# EAGLE library part BD (library open-bldc)
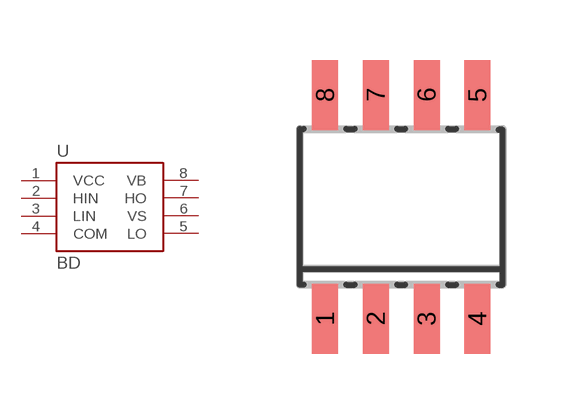
[diagram p14: symbol with the pads of SO8; footprint SO8]

Designator prefix U

## BD_IR2101  [SO8]
1  VCC
2  HIN
3  LIN
4  COM
5  LO
6  VS
7  HO
8  VB

## BD_UCC27200  [SO8]
1  VCC
2  VB
3  HO
4  VS
5  HIN
6  LIN
7  COM
8  LO

## Footprint SO8 (pad centres in mm)
Complient to the IPC7351 standard (SOIC127P600X175-8M)
smd 0.65 x 1.75: 1 -1.905,-2.8; 2 -0.635,-2.8; 3 0.635,-2.8; 4 1.905,-2.8; 5 1.905,2.8; 6 0.635,2.8; 7 -0.635,2.8; 8 -1.905,2.8